# Altium footprint library LegacyTOxx.PcbLib: 110 footprints (part 7 of 7)
Each footprint in its own frame and in the unit in brackets; x right, y up, seen from the top. Pads: shape width x height; smd on the part's side, far side on the other; paste and mask are expansions set on the pad; w line width, h text height; cw(c..) or ccw(c..) is an arc to the next point about the centre after c.
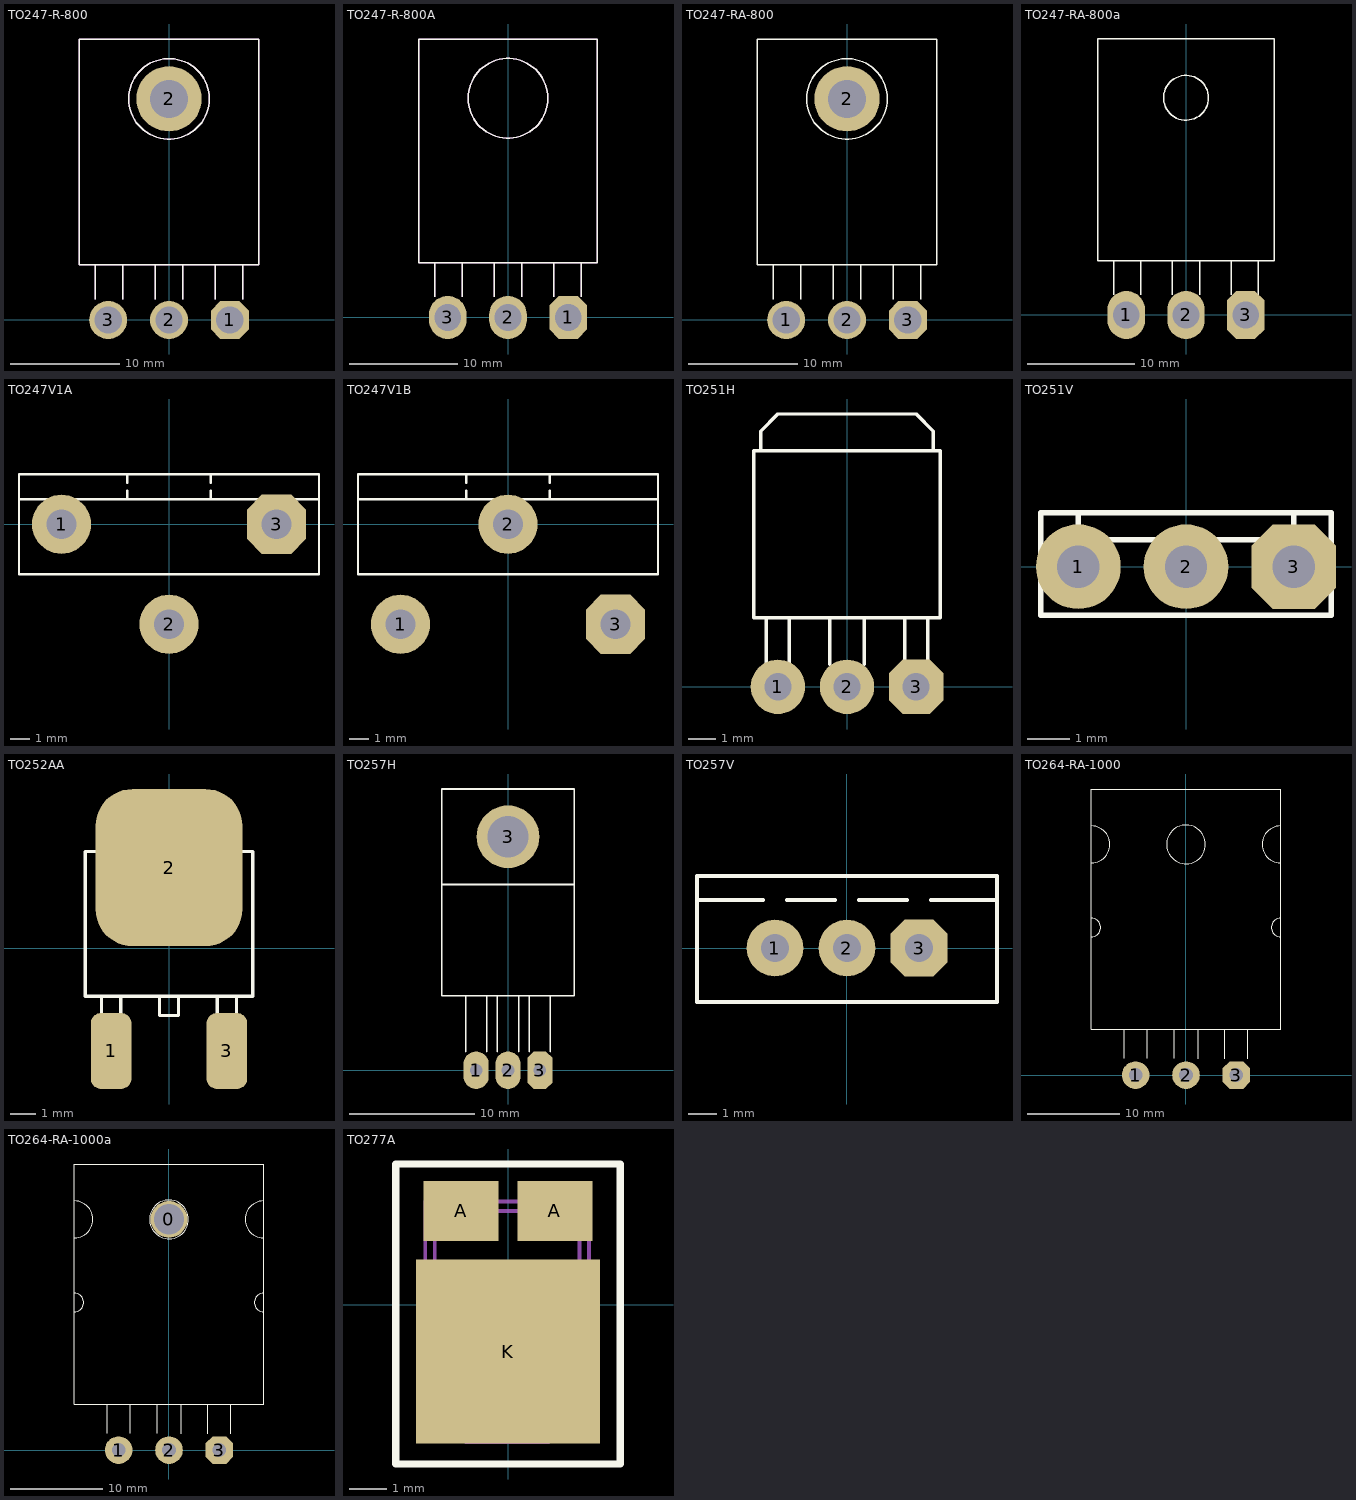
[diagram p6: the footprints below, top view; thin cyan lines are the x and y axes]

## TO247-R-800 [mm]
pads (4):
  oct 3.5x3.5 hole 2.5: 1(5.588,0)
  round 3.5 hole 2.5: 2(0,0) 3(-5.588,0)
  round 6 hole 3.5: 2(0,20.32)
TopOverlay:
  circle w0.125: c0,20.32 r3.698
  lines w0.125: -6.773,1.905 -6.773,5.08 ; -4.233,1.905 -4.233,5.08 ; -1.27,1.905 -1.27,5.08 ; 1.27,1.905 1.27,5.08 ; 4.233,1.905 4.233,5.08 ; 6.773,1.905 6.773,5.08 ; -8.255,5.08 -8.255,25.82 8.255,25.82 8.255,5.08 -8.255,5.08
Mechanical13:
  circle w0.125: c0,20.32 r3.698
  lines w0.125: -6.773,1.905 -6.773,5.08 ; -4.233,1.905 -4.233,5.08 ; -1.27,1.905 -1.27,5.08 ; 1.27,1.905 1.27,5.08 ; 4.233,1.905 4.233,5.08 ; 6.773,1.905 6.773,5.08 ; -8.255,5.08 8.255,5.08 8.255,25.82 -8.255,25.82 -8.255,5.08
3D body "TO-247-RA-800.STEP": height 10, standoff -1.9, extent -7.75,-0.3 7.75,25.82

## TO247-R-800A [mm]
pads (3):
  oct 3.5x4 hole 2.5: 1(5.588,0)
  oval 3.5x4 hole 2.5: 2(0,0) 3(-5.588,0)
TopOverlay:
  circle w0.125: c0,20.32 r3.698
  lines w0.125: -6.773,1.905 -6.773,5.08 ; -4.233,1.905 -4.233,5.08 ; -1.27,1.905 -1.27,5.08 ; 1.27,1.905 1.27,5.08 ; 4.233,1.905 4.233,5.08 ; 6.773,1.905 6.773,5.08 ; -8.255,5.08 8.255,5.08 8.255,25.82 -8.255,25.82 -8.255,5.08
Mechanical13:
  circle w0.125: c0,20.32 r3.698
  lines w0.125: -6.773,1.905 -6.773,5.08 ; -4.233,1.905 -4.233,5.08 ; -1.27,1.905 -1.27,5.08 ; 1.27,1.905 1.27,5.08 ; 4.233,1.905 4.233,5.08 ; 6.773,1.905 6.773,5.08 ; -8.255,5.08 -8.255,25.82 8.255,25.82 8.255,5.08 -8.255,5.08
3D body "TO-247-RA-800.STEP": height 10, standoff -1.9, extent -7.75,-0.3 7.75,25.82

## TO247-RA-800 [mm]
pads (4):
  round 3.5 hole 2.5: 1(-5.588,0) 2(0,0)
  round 6 hole 3.5: 2(0,20.32)
  oct 3.5x3.5 hole 2.5: 3(5.588,0)
TopOverlay:
  circle w0.125: c0,20.32 r3.698
  lines w0.125: -6.773,1.905 -6.773,5.08 ; -4.233,1.905 -4.233,5.08 ; -1.27,1.905 -1.27,5.08 ; 1.27,1.905 1.27,5.08 ; 4.233,1.905 4.233,5.08 ; 6.773,1.905 6.773,5.08 ; -8.255,5.08 8.255,5.08 8.255,25.82 -8.255,25.82 -8.255,5.08
3D body "TO-247-RA-800.STEP": height 0.9, standoff -11, extent -7.75,-0.3 7.75,25.82

## TO247-RA-800a [mm]
pads (3):
  oval 3.5x4.5 hole 2.5: 1(-5.588,0) 2(0,0)
  oct 3.5x4.5 hole 2.5: 3(5.588,0)
TopOverlay:
  circle w0.125: c0,20.32 r2.1
  lines w0.125: -6.773,1.905 -6.773,5.08 ; -4.233,1.905 -4.233,5.08 ; -1.27,1.905 -1.27,5.08 ; 1.27,1.905 1.27,5.08 ; 4.233,1.905 4.233,5.08 ; 6.773,1.905 6.773,5.08 ; -8.255,5.08 8.255,5.08 8.255,25.82 -8.255,25.82 -8.255,5.08
3D body "TO-247-RA-800.STEP": height 0.9, standoff -11, extent -7.75,-0.3 7.75,25.82

## TO247V1A [mm]
pads (3):
  round 3 hole 1.5: 1(-5.461,0) 2(0,-5.08)
  oct 3x3 hole 1.5: 3(5.461,0)
TopOverlay:
  lines w0.125: -7.62,1.27 7.62,1.27 ; -2.117,1.27 -2.117,1.693 ; -2.117,2.117 -2.117,2.54 ; 2.117,1.27 2.117,1.693 ; 2.117,2.117 2.117,2.54 ; -7.62,-2.54 7.62,-2.54 7.62,2.54 -7.62,2.54 -7.62,-2.54

## TO247V1B [mm]
pads (3):
  round 3 hole 1.5: 1(-5.461,-5.08) 2(0,0)
  oct 3x3 hole 1.5: 3(5.461,-5.08)
TopOverlay:
  lines w0.125: -7.62,1.27 7.62,1.27 ; -2.117,1.27 -2.117,1.693 ; -2.117,2.117 -2.117,2.54 ; 2.117,1.27 2.117,1.693 ; 2.117,2.117 2.117,2.54 ; -7.62,-2.54 -7.62,2.54 7.62,2.54 7.62,-2.54 -7.62,-2.54

## TO251H [mm]
pads (3):
  round 2 hole 1: 1(-2.54,0) 2(0,0)
  oct 2x2 hole 1: 3(2.54,0)
TopOverlay:
  lines w0.125: -2.963,0.835 -2.963,2.54 ; -2.117,0.835 -2.117,2.54 ; -0.635,0.835 -0.635,2.54 ; 0.635,0.835 0.635,2.54 ; 2.117,0.835 2.117,2.54 ; 2.963,0.835 2.963,2.54 ; -3.429,2.54 3.429,2.54 3.429,8.678 -3.429,8.678 -3.429,2.54 ; -3.175,8.678 3.175,8.678 3.175,9.398 2.54,10.033 -2.54,10.033 -3.175,9.398 -3.175,8.678

## TO251V [mm]
pads (3):
  round 2 hole 1: 1(-2.54,0) 2(0,0)
  oct 2x2 hole 1: 3(2.54,0)
TopOverlay:
  lines w0.125: -2.54,1.27 -2.54,0.635 2.54,0.635 2.54,1.27 ; -3.429,-1.143 -3.429,1.27 3.429,1.27 3.429,-1.143 -3.429,-1.143

## TO252AA [mm]
pads (3):
  rrect50% 1.6x3 smd: 1(-2.286,-4.064) 3(2.286,-4.064)
  rrect50% 5.8x6.2 smd: 2(0,3.175)
TopOverlay:
  lines w0.125: -2.667,-1.905 -2.667,-4.445 -1.905,-4.445 -1.905,-1.905 ; -2.54,3.81 -2.54,4.445 -1.905,5.08 1.905,5.08 2.54,4.445 2.54,3.81 ; -0.381,-1.905 -0.381,-2.667 0.381,-2.667 0.381,-1.905 ; 1.905,-1.905 1.905,-4.445 2.667,-4.445 2.667,-1.905 ; -3.302,-1.905 3.302,-1.905 3.302,3.81 -3.302,3.81 -3.302,-1.905
3D body "TO-252.STEP": height 2.3, standoff -0.05, extent -3.302,-4.816 3.278,5.324

## TO257H [mm]
pads (4):
  oval 2x3 hole 1: 1(-2.54,0) 2(0,0)
  round 5 hole 3.3: 3(0,18.627)
  oct 2x3 hole 1: 3(2.54,0)
TopOverlay:
  circle w0.125: c0,18.627 r2.286
  lines w0.125: -5.292,14.817 5.292,14.817 ; -3.387,1.482 -3.387,5.927 ; -1.693,1.482 -1.693,5.927 ; -0.847,1.482 -0.847,5.927 ; 0.847,1.482 0.847,5.927 ; 1.693,1.482 1.693,5.927 ; 3.387,1.482 3.387,5.927 ; -5.292,5.927 5.292,5.927 5.292,22.437 -5.292,22.437 -5.292,5.927

## TO257V [mm]
pads (3):
  round 2 hole 1: 1(-2.54,0) 2(0,0)
  oct 2x2 hole 1: 3(2.54,0)
TopOverlay:
  lines w0.125: -5.292,1.693 -2.963,1.693 ; -2.117,1.693 -0.423,1.693 ; 0.423,1.693 2.117,1.693 ; 2.963,1.693 5.292,1.693 ; -5.292,-1.905 -5.292,2.54 5.292,2.54 5.292,-1.905 -5.292,-1.905

## TO264-RA-1000 [mm]
pads (3):
  round 3 hole 1.5: 1(-5.45,0) 2(0,0)
  oct 3x3 hole 1.5: 3(5.45,0)
TopOverlay:
  circle w0.125: c0,25 r2.1
  lines w0.125: -10.25,15 ccw(c-10.25,16) -10.25,17 ; -10.25,23 ccw(c-10.25,25) -10.25,27 ; -6.7,1.825 -6.7,5 ; -4.2,1.825 -4.2,5 ; -1.25,1.825 -1.25,5 ; 1.325,1.75 1.325,4.925 ; 4.2,1.75 4.2,4.925 ; 6.7,1.75 6.7,4.925 ; 10.25,15 cw(c10.25,16) 10.25,17 ; 10.25,23 cw(c10.25,25) 10.25,27 ; -10.25,5 -10.25,31 10.25,31 10.25,5 -10.25,5
3D body "TO-264-H.STEP": height 3.1, standoff -10, extent -10.25,-0.3 10.25,30.979

## TO264-RA-1000a [mm]
pads (4):
  round 4 hole 3.3: 0(0,25)
  round 3 hole 1.5: 1(-5.45,0) 2(0,0)
  oct 3x3 hole 1.5: 3(5.45,0)
TopOverlay:
  circle w0.125: c0,25 r2.1
  lines w0.125: -10.25,15 ccw(c-10.25,16) -10.25,17 ; -10.25,23 ccw(c-10.25,25) -10.25,27 ; -6.7,1.825 -6.7,5 ; -4.2,1.825 -4.2,5 ; -1.25,1.825 -1.25,5 ; 1.325,1.75 1.325,4.925 ; 4.2,1.75 4.2,4.925 ; 6.7,1.75 6.7,4.925 ; 10.25,15 cw(c10.25,16) 10.25,17 ; 10.25,23 cw(c10.25,25) 10.25,27 ; -10.25,5 -10.25,31 10.25,31 10.25,5 -10.25,5
3D body "TO-264-H.STEP": height 6.6, standoff -6.5, extent -10.25,-0.3 10.25,30.979

## TO277A [mm]
pads (3):
  rect 2x1.6 smd: A(-1.25,2.5) A(1.25,2.5)
  rect 4.9x4.9 smd: K(0,-1.25)
TopOverlay:
  lines w0.2: -3,-4.25 -3,3.75 3,3.75 3,-4.25 -3,-4.25
Mechanical13:
  lines w0.1: -2.207,0.135 -2.408,0.135 -2.408,0.888 -2.207,0.888 ; -1.806,2.749 -1.806,3 -0.451,3 -0.451,2.749 ; -1.129,-3.422 -1.129,-3.673 1.079,-3.673 1.079,-3.422 ; 0.402,2.749 0.402,3 1.756,3 1.756,2.749 ; 2.158,0.135 2.359,0.135 2.359,0.888 2.158,0.888 ; -2.207,-3.422 -1.957,-3.172 ; -2.207,-3.422 -2.207,2.749 ; -2.207,-3.422 2.158,-3.422 ; -2.207,2.749 -1.957,2.498 ; -2.207,2.749 2.158,2.749 ; -1.957,-3.172 -1.957,2.498 ; -1.957,-3.172 1.907,-3.172 ; -1.957,2.498 1.907,2.498 ; 1.907,-3.172 2.158,-3.422 ; 1.907,-3.172 1.907,2.498 ; 1.907,2.498 2.158,2.749 ; 2.158,-3.422 2.158,2.749
Mechanical15:
  lines w0.15: -0.5,0 0.5,0 ; 0,-0.5 0,0.5 ; -3,-4.25 3,-4.25 3,3.75 -3,3.75 -3,-4.25
3D body "User Library-TO-277A.step": height 1.2, standoff 0, extent -2.375,-3.65 2.375,3